# Altium schematic symbol library LD09P24A4GV00LF.SchLib: 1 symbol
Pins are listed as number, name and electrical type; pins without a type are passive.

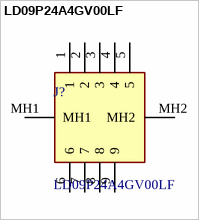
[diagram p0: symbol LD09P24A4GV00LF]

## LD09P24A4GV00LF
designator J?
Amphenol FCI LD Series, 9 Way Plug-In Mount D-sub Connector Plug, 2.74mm Pitch, with Screw; Manufacturer_Name: Amphenol Communication Solutions; Geometry.Height: 12.15mm; Manufacturer_Part_Number: LD09P24A4GV00LF; Mouser Part Number: 649-LD09P24A4GV00LF; Mouser Price/Stock: https://www.mouser.co.uk/ProductDetail/Amphenol-FCI/LD09P24A4GV00LF?qs=tZOhSuJQg1nfkziarphghA%3D%3D; Arrow Part Number: LD09P24A4GV00LF; Arrow Price/Stock: https://www.arrow.com/en/products/ld09p24a4gv00lf/amphenol-fci?region=nac; Mouser Testing Part Number: *; Mouser Testing Price/Stock: *; Datasheet Link: https://www.mouser.com/datasheet/2/18/10130912-1362365.pdf
footprint LD09P24A4GV00LF
pins: 1, 2, 3, 4, 5, 6, 7, 8, 9, MH1, MH2